# Altium schematic symbol library Integrated_Library - 28.09.18 - 20.02.SchLib: 1 symbol
Pins are listed as number, name and electrical type; pins without a type are passive.

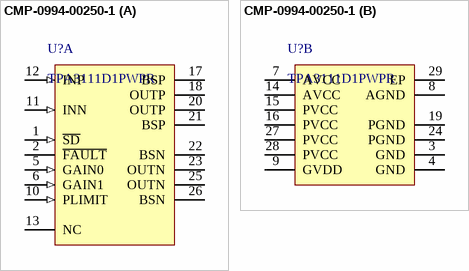
[diagram p0: symbol CMP-0994-00250-1]

## CMP-0994-00250-1
designator U?, comment TPA3111D1PWPR
10 W Mono Class-D Audio Power Amplifier with SpeakerGuard(TM), -40 to 85 degC, 28-pin SOP (PWP28), Green (RoHS & no Sb/Br); Manufacturer: Texas Instruments; Input Type: Analog; Max. Number of Speaker Outputs: 1; Analog Supply Max [V]: 26; Analog Supply Min [V]: 8; SubFamily: Mid/High-Power Amplifier; ComponentLink1URL: http://www.ti.com/; DatasheetVersion: SLOS618C; ComponentLink2URL: http://www.ti.com/general/docs/lit/getliterature.tsp?genericPartNumber=TPA3111D1&fileType=pdf; ComponentLink1Description: Manufacturer URL; Code_JEDEC: MO-153; ComponentLink2Description: Datasheet; Eco-Plan: Green (RoHS & no Sb/Br); ComponentLink3URL: http://www.ti.com/litv/pdf/mpds373; PackageDescription: 28-Pin Plastic Small Outline, Body 4.4 x 9.7 mm, Pitch 0.65 mm; Power Stage Supply Min(V): 8; PackageVersion: 4073225-6/I, 05/2011; Mounting Technology: Surface Mount; PartNumber: TPA3111D1PWPR; PackageReference: PWP28-5720X1950TP; ComponentLink3Description: Package Specification
footprint TI-PWP28-5720X1950TP_L (SOP, 28-Leads, Body 9.8x4.5mm, Pitch 0.65mm, Thermal Pad 6.17x2.4mm, IPC High Density)
footprint TI-PWP28-5720X1950TP_N (SOP, 28-Leads, Body 9.8x4.5mm, Pitch 0.65mm, Thermal Pad 6.17x2.4mm, IPC Medium Density)
footprint TI-PWP28-5720X1950TP_M (SOP, 28-Leads, Body 9.8x4.5mm, Pitch 0.65mm, Thermal Pad 6.17x2.4mm, IPC Low Density)
footprint TI-PWP28-5720X1950TP_Q (SOP, 28-Leads, Body 9.8x4.5mm, Pitch 0.65mm, Thermal Pad 6.17x2.4mm, IPC High Density)
part A pins: 1 ~{SD} (in) "Shutdown logic input for audio amp(LOW = outputs Hi-Z, HIGH = outputs enabled). TTL logic levels with compliance to AVCC.", 2 ~{FAULT} (oc) "Open drain output used to display short circuit or dc detect fault status. Voltage compliant to AVCC. Short circuit faults can be set to auto-recovery by connecting F\A\U\L\T\ pin to S\D\ pin. Otherwise bothe short circuit (See Datasheet)", 5 GAIN0 (in) "Gain select least significant bit. TTL logic levels with compliance to AVCC.", 6 GAIN1 (in) "Gain select most significant bit. TTL logic levels with compliance to AVCC.", 10 PLIMIT (in) "Power limit level adjust. Connect directly to GVDD pin for no power limiting. Add a 1uF cap to ground at this pin.", 11 INN (in) "Negative audio input. Biased at 3V.", 12 INP (in) "Positive audio input. Biased at 3V.", 13 NC "Not connected", 17 BSP "Bootstrap I/O for positive high-side FET.", 18 OUTP (hiz) "Class-D H-bridge positive output.", 20 OUTP (hiz) "Class-D H-bridge positive output.", 21 BSP "Bootstrap I/O for positive high-side FET.", 22 BSN "Bootstrap I/O for negative high-side FET.", 23 OUTN (hiz) "Class-D H-bridge negative output.", 25 OUTN (hiz) "Class-D H-bridge negative output.", 26 BSN "Bootstrap I/O for negative high-side FET."
part B pins: 3 GND (power) "Connect to local ground", 4 GND (power) "Connect to local ground", 7 AVCC (power) "Analog supply.", 8 AGND (power) "Analog supply ground. Connect to the thermal pad.", 9 GVDD (power) "High-side FET gate drive supply. Nominal voltage is 7V. May also be used as supply for PLILMIT divider. Add a 1uF cap to ground at this pin.", 14 AVCC (power) "Connect AVCC supply to this pin", 15 PVCC (power) "Power supply for H-bridge. PVCC pins are also connected internally.", 16 PVCC (power) "Power supply for H-bridge. PVCC pins are also connected internally.", 19 PGND (power) "Power ground for the H-bridges.", 24 PGND (power) "Power ground for the H-bridges.", 27 PVCC (power) "Power supply for H-bridge. PVCC pins are also connected internally.", 28 PVCC (power) "Power supply for H-bridge. PVCC pins are also connected internally.", 29 EP (power)